# EAGLE library part PINHEADER_2*20 (library thinker_pinheader)
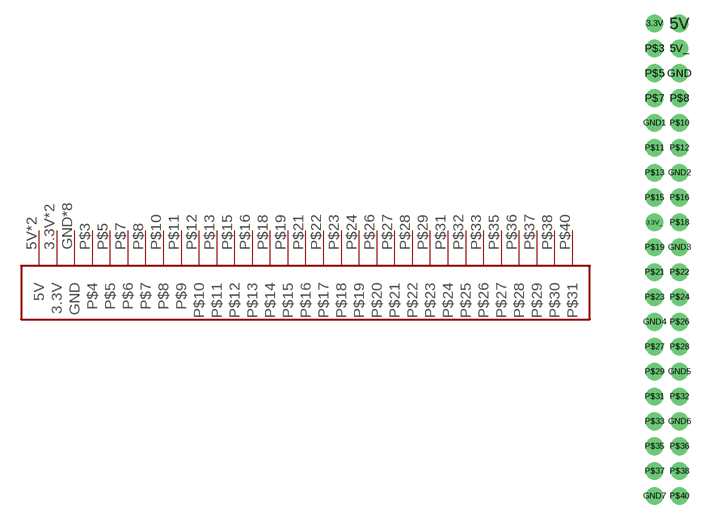
[diagram p0: symbol with the pads of PINHEADER_2*20; footprint PINHEADER_2*20]

Designator prefix -

## PINHEADER_220  [PINHEADER_2*20]
3.3V  3.3V
3.3V_  3.3V
5V  5V
5V_  5V
GND  GND
GND1  GND
GND2  GND
GND3  GND
GND4  GND
GND5  GND
GND6  GND
GND7  GND
P$3  P$4
P$5  P$5
P$7  P$6
P$8  P$7
P$10  P$8
P$11  P$9
P$12  P$10
P$13  P$11
P$15  P$12
P$16  P$13
P$18  P$14
P$19  P$15
P$21  P$16
P$22  P$17
P$23  P$18
P$24  P$19
P$26  P$20
P$27  P$21
P$28  P$22
P$29  P$23
P$31  P$24
P$32  P$25
P$33  P$26
P$35  P$27
P$36  P$28
P$37  P$29
P$38  P$30
P$40  P$31

## Footprint PINHEADER_2*20 (pad centres in mm)
drill 1.2: 3.3V 0,0; 3.3V_ 0,-20.32; 5V 2.54,0; 5V_ 2.54,-2.54; GND 2.54,-5.08; GND1 0,-10.16; GND2 2.54,-15.24; GND3 2.54,-22.86; GND4 0,-30.48; GND5 2.54,-35.56; GND6 2.54,-40.64; GND7 0,-48.26; P$3 0,-2.54; P$5 0,-5.08; P$7 0,-7.62; P$8 2.54,-7.62; P$10 2.54,-10.16; P$11 0,-12.7; P$12 2.54,-12.7; P$13 0,-15.24; P$15 0,-17.78; P$16 2.54,-17.78; P$18 2.54,-20.32; P$19 0,-22.86; P$21 0,-25.4; P$22 2.54,-25.4; P$23 0,-27.94; P$24 2.54,-27.94; P$26 2.54,-30.48; P$27 0,-33.02; P$28 2.54,-33.02; P$29 0,-35.56; P$31 0,-38.1; P$32 2.54,-38.1; P$33 0,-40.64; P$35 0,-43.18; P$36 2.54,-43.18; P$37 0,-45.72; P$38 2.54,-45.72; P$40 2.54,-48.26